# EAGLE library part RFM69 (library kiall)
RFM69 module
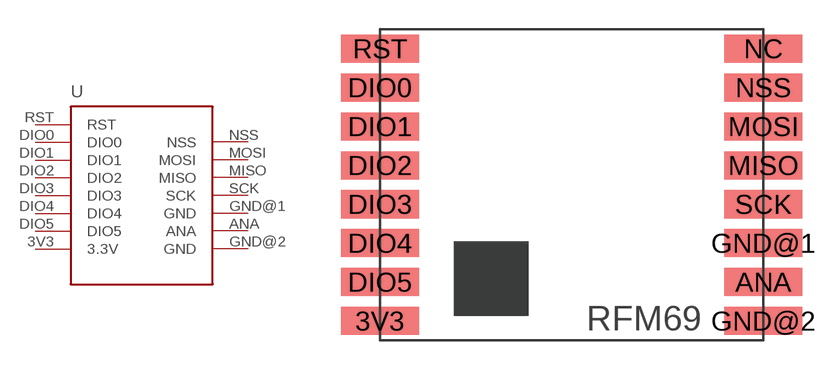
[diagram p0: symbol with the pads of RFM69; footprint RFM69]

Designator prefix -

## RFM69HW, RFM69W  [RFM69]
3V3  3.3V  pwr
ANA  ANA
DIO0  DIO0
DIO1  DIO1
DIO2  DIO2
DIO3  DIO3
DIO4  DIO4
DIO5  DIO5
GND@1  GND  pwr
GND@2  GND  pwr
MISO  MISO
MOSI  MOSI
NSS  NSS
RST  RST
SCK  SCK

## Footprint RFM69 (pad centres in mm)
RFM69 19.7 x 16mm SMT Board
smd 4 x 1.44: 3V3 0,1; ANA 19.7,3; DIO0 0,13; DIO1 0,11; DIO2 0,9; DIO3 0,7; DIO4 0,5; DIO5 0,3; GND@1 19.7,5; GND@2 19.7,1; MISO 19.7,9; MOSI 19.7,11; NC 19.7,15; NSS 19.7,13; RST 0,15; SCK 19.7,7